# Altium footprint library MOSFET_BEND_rad.PcbLib: 1 footprints
Each footprint in its own frame and in the unit in brackets; x right, y up, seen from the top. Pads: shape width x height; smd on the part's side, far side on the other; paste and mask are expansions set on the pad; w line width, h text height; cw(c..) or ccw(c..) is an arc to the next point about the centre after c.
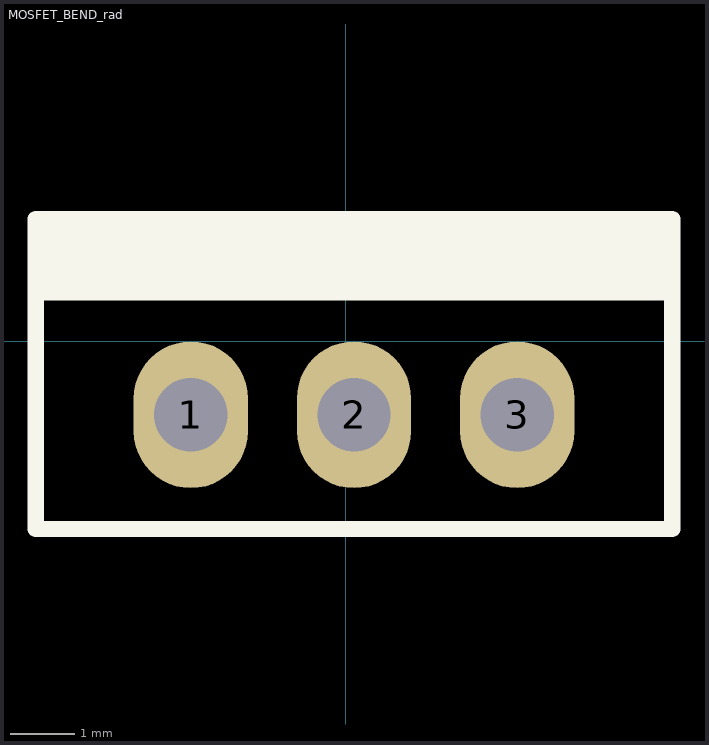
[diagram p0: the footprint, top view; thin cyan lines are the x and y axes]

## MOSFET_BEND_rad [mil]
pads (3):
  oval 70x90 hole 45: 1(-95,-45) 2(5,-45) 3(105,-45)
Top Overlay:
  rectangle: -190,25 200,75
  lines w10: -190,-115 200,-115 200,75 -190,75 -190,-115
Bottom Overlay:
  rectangle: -190,25 200,75
  lines w10: -190,75 200,75 ; -190,75 -190,25 200,25 200,75 ; -190,75 200,75 ; -190,75 -190,-115 200,-115 200,75
3D body "TO220 (bend).STEP": height 775, standoff -159.27, extent -190,-115.93 202.5,75.93